# Altium integrated library Linear Technology PMIC-Switching Reg LTC1174-LTC3901.IntLib: 2647 symbols (part 17 of 310)
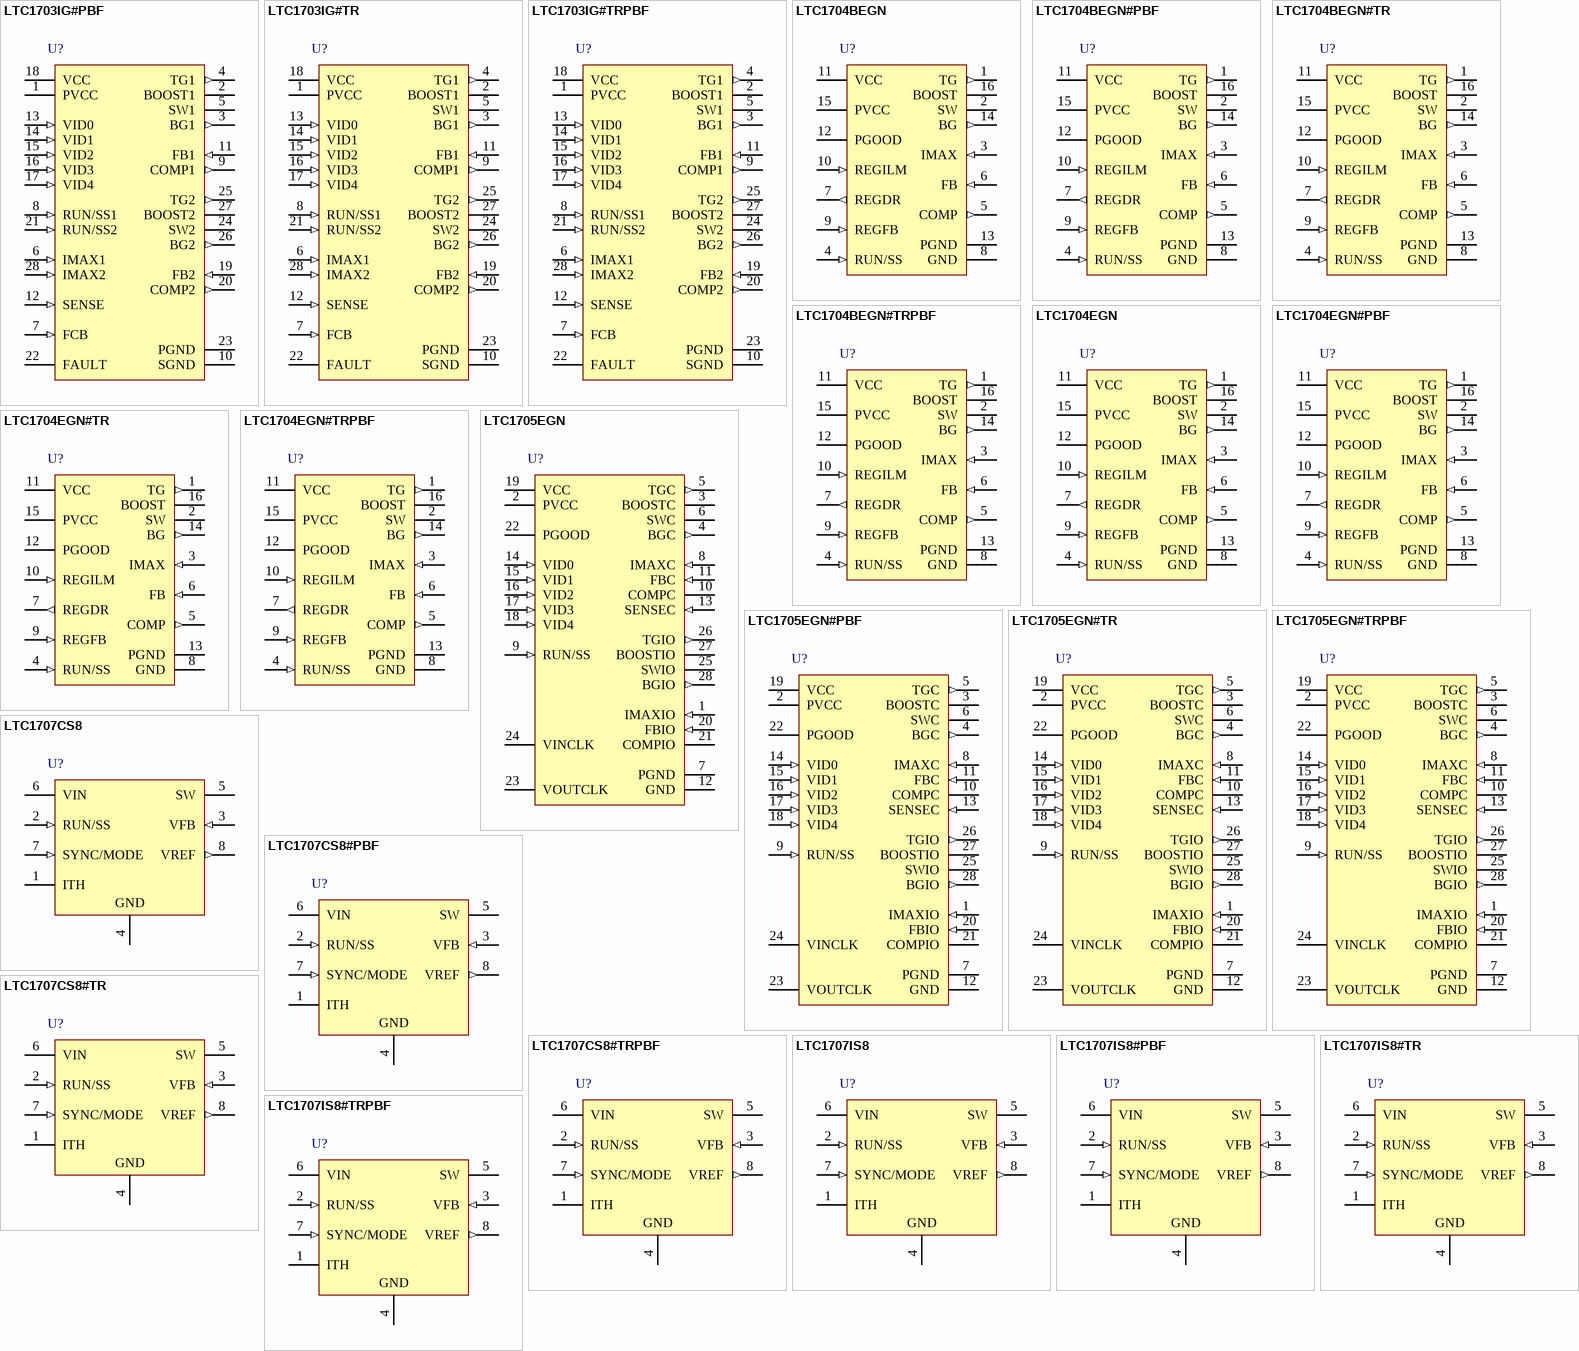
[diagram p125: symbols LTC1703IG#PBF to LTC1707IS8#TRPBF]

## LTC1707IS8#TR
designator U?
High Efficiency Monolithic Synchronous Step-Down Switching Regulator, 8-pin SOIC (S8-8), -40 to 85 degC, Tape and Reel; Manufacturer: Linear Technology; PartNumber: LTC1707IS8#TR; Number of Outputs: 1; PackageReference: S8-8; PackageDescription: 8-Pin Plastic Small Outline (Narrow .150 Inch), Body 4.9 x 3.9 mm, Pitch 1.27 mm; Supplier 1: Digi-Key; Supplier Part Number 1: LTC1707IS8#TR-ND; RoHS: FALSE
footprint LT-S8-8_N (SOIC, 8-Leads, Body 5x4mm, Pitch 1.27mm, IPC Medium Density)
footprint LT-S8-8_L (SOIC, 8-Leads, Body 5x4mm, Pitch 1.27mm, IPC High Density)
footprint LT-S8-8_M (SOIC, 8-Leads, Body 5x4mm, Pitch 1.27mm, IPC Low Density)
pins: 1 ITH "Error Amplifier Compensation Point. The current comparator threshold increases with this control voltage. Nominal voltage range for this pin is 0V to 1.2V.", 2 RUN/SS (in), 3 VFB (in) "Feedback Pin. Receives the feedback voltage from an external resistive divider across the output.", 4 GND (power) "Ground Pin.", 5 SW (power) "Switch Node Connection to Inductor. This pin connects to the drains of the internal main and synchronous power MOSFET switches.", 6 VIN (power) "Main Supply Pin. Must be closely decoupled to GND, Pin 4.", 7 SYNC/MODE (in), 8 VREF (out) "The Output of a 1.19V +/-1% Precision Reference. May be loaded up to 100uA and is stable with up to 2000pF load capacitance."

## LTC1707IS8#TRPBF
designator U?
High Efficiency Monolithic Synchronous Step-Down Switching Regulator, 8-pin SOIC (S8-8), -40 to 85 degC, Pb-Free, Tape and Reel; Manufacturer: Linear Technology; PartNumber: LTC1707IS8#TRPBF; Number of Outputs: 1; PackageReference: S8-8; PackageDescription: 8-Pin Plastic Small Outline (Narrow .150 Inch), Body 4.9 x 3.9 mm, Pitch 1.27 mm; Supplier 1: Digi-Key; Supplier Part Number 1: LTC1707IS8#TRPBF-ND; RoHS: TRUE
footprint LT-S8-8_N (SOIC, 8-Leads, Body 5x4mm, Pitch 1.27mm, IPC Medium Density)
footprint LT-S8-8_L (SOIC, 8-Leads, Body 5x4mm, Pitch 1.27mm, IPC High Density)
footprint LT-S8-8_M (SOIC, 8-Leads, Body 5x4mm, Pitch 1.27mm, IPC Low Density)
pins: 1 ITH "Error Amplifier Compensation Point. The current comparator threshold increases with this control voltage. Nominal voltage range for this pin is 0V to 1.2V.", 2 RUN/SS (in), 3 VFB (in) "Feedback Pin. Receives the feedback voltage from an external resistive divider across the output.", 4 GND (power) "Ground Pin.", 5 SW (power) "Switch Node Connection to Inductor. This pin connects to the drains of the internal main and synchronous power MOSFET switches.", 6 VIN (power) "Main Supply Pin. Must be closely decoupled to GND, Pin 4.", 7 SYNC/MODE (in), 8 VREF (out) "The Output of a 1.19V +/-1% Precision Reference. May be loaded up to 100uA and is stable with up to 2000pF load capacitance."

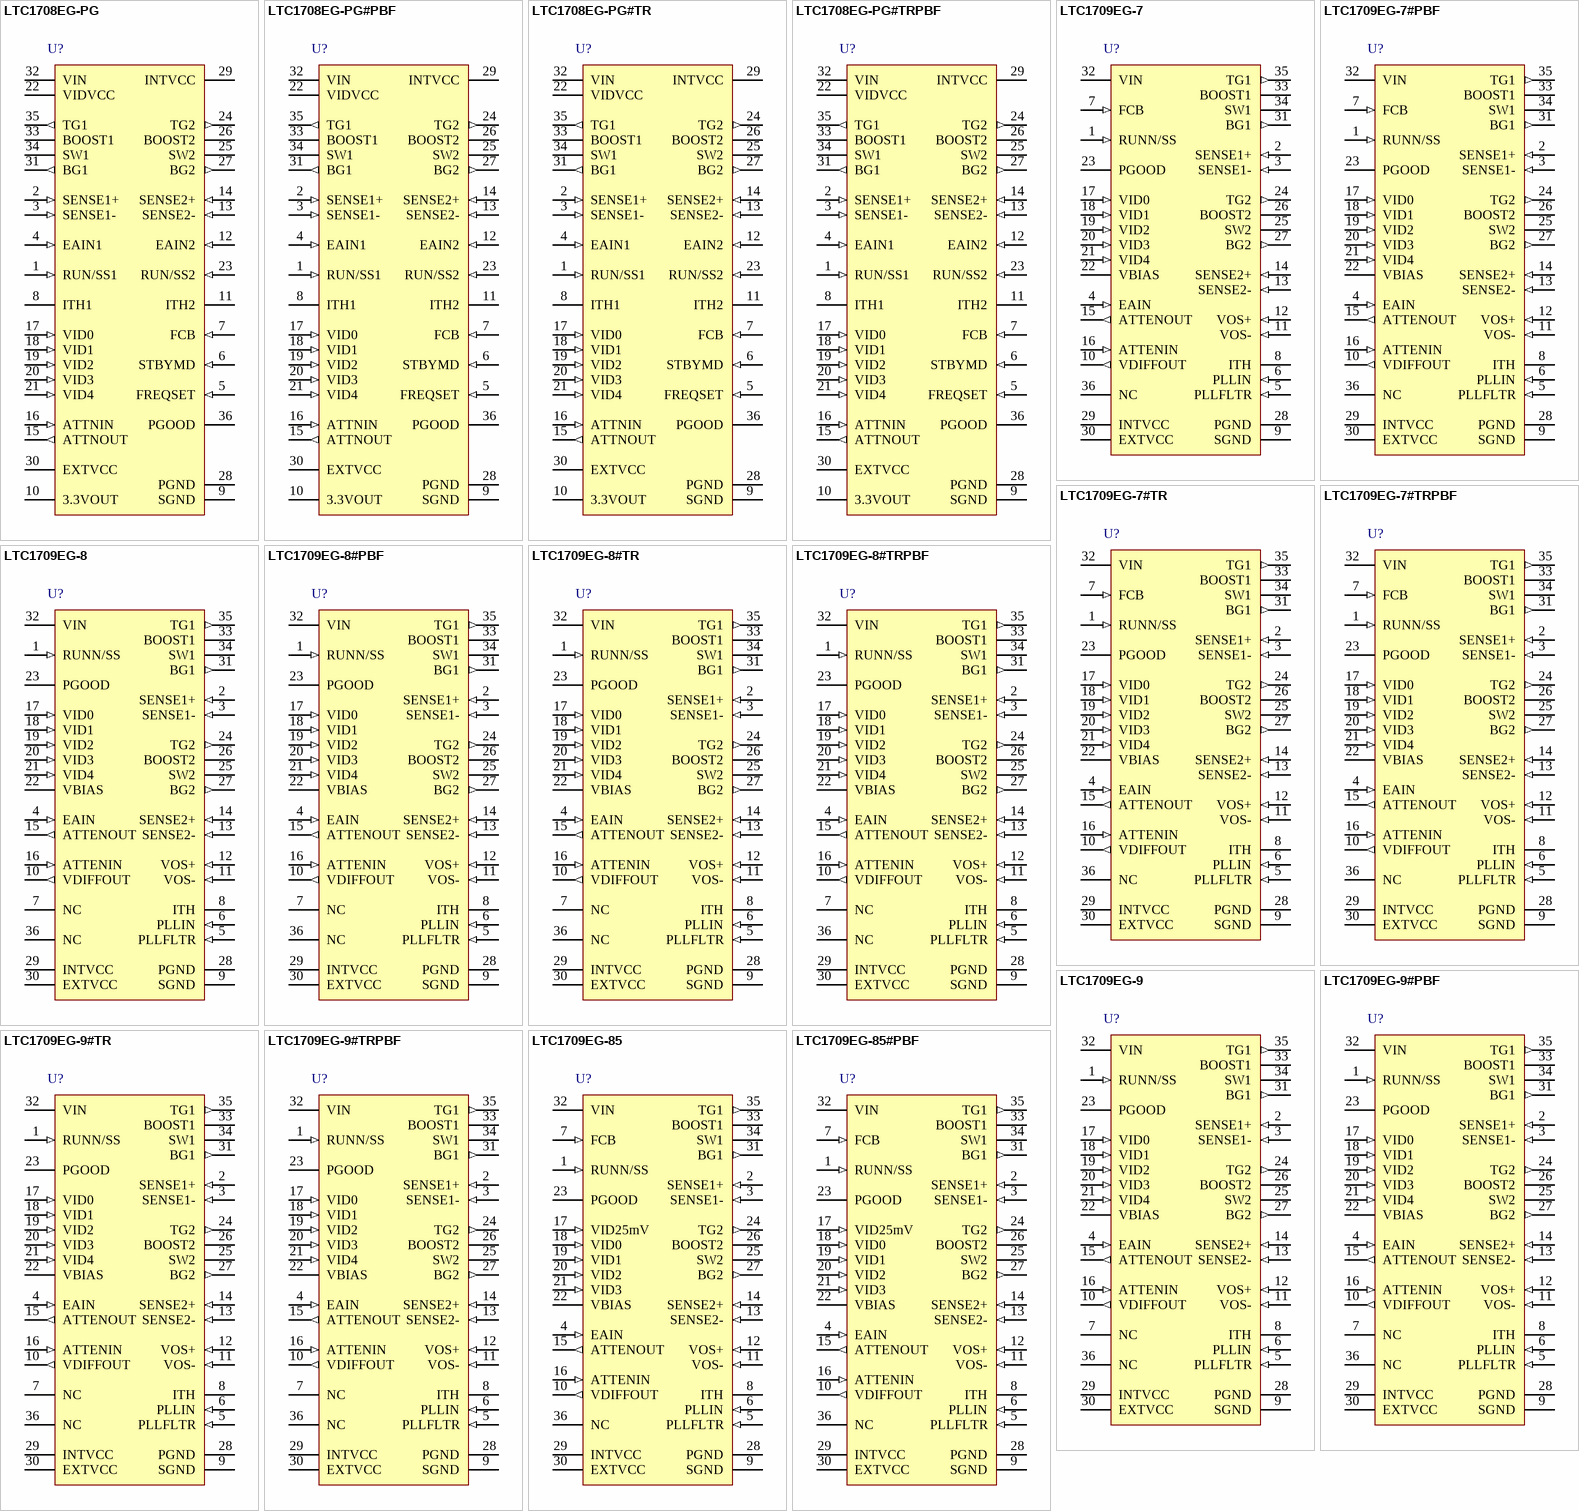
[diagram p6: symbols LTC1708EG-PG to LTC1709EG-85#PBF]

## LTC1708EG-PG
designator U?
Dual Adjustable 5-Bit VID High Efficiency, 2-Phase Current Mode Synchronous Buck DC/DC Regulator, 36-pin SOP (G-36), -40 to 85 degC; Manufacturer: Linear Technology; PartNumber: LTC1708EG-PG; Number of Outputs: 2; PackageReference: G-36; PackageDescription: 36-Pin Plastic SSOP, Body 12.8 x 5.3 mm, Pitch 0.65 mm; Supplier 1: Digi-Key; Supplier Part Number 1: LTC1708EG-PG-ND; RoHS: FALSE
footprint LT-G-36_N (SOP, 36-Leads, Body 13.1x5.6mm, Pitch 0.65mm, IPC Medium Density)
footprint LT-G-36_L (SOP, 36-Leads, Body 13.1x5.6mm, Pitch 0.65mm, IPC High Density)
footprint LT-G-36_M (SOP, 36-Leads, Body 13.1x5.6mm, Pitch 0.65mm, IPC Low Density)
pins: 1 RUN/SS1 (in) "Combination of softstart, run control inputs and short-circuit detection timers. A capacitor to ground at each of these pins sets the ramp time to full output current. Forcing either of these pins back below 1.0V causes the (See Datasheet)", 2 SENSE1+ (in) "The (+) Input to the Differential Current Comparators. The Ith pin voltage and built-in offsets between the SENSE- and SENSE+ pins in conjunction with RSENSE sets the current trip threshold.", 3 SENSE1- (in) "The (-) Input to the Differential Current Comparators", 4 EAIN1 (in) "Receives the remotely sensed feedback voltage for each controller from a resistive divider across the output. The VID section may be used for one resistive divider.", 5 FREQSET (in) "Frequency Control Input to the Oscillator. This pin can be left open, tied to ground, tied to INTVCC or driven by an external voltage source. This pin can also be used with an external phase detector to build a true (See Datasheet)", 6 STBYMD (in) "Control pin that determines which circuitry remains active when the controllers are shut down and/or provides a common control point to shut down both controllers. See the Operation section for details.", 7 FCB (in) "Forced Continuous Control Input. This input acts on both controllers and is normally used to regulate a secondary winding using a resistive divider. An applied input voltage below 0.8V will force continuous synchronous (See Datasheet)", 8 ITH1 "Error Amplifier Output and Switching Regulator Compensation Point. Each associated channels?current comparator trip point increases with this control voltage.", 9 SGND (power) "Small-Signal Ground. Common to both controllers, this pin must be routed separately from high current grounds to the common (-) terminals of the COUT capacitors.", 10 3.3VOUT (power) "Output of a linear regulator capable of supplying 10mA DC with peak currents as high as 50mA.", 11 ITH2 "Error Amplifier Output and Switching Regulator Compensation Point. Each associated channels?current comparator trip point increases with this control voltage.", 12 EAIN2 (in) "Receives the remotely sensed feedback voltage for each controller from a resistive divider across the output. The VID section may be used for one resistive divider.", 13 SENSE2- (in) "The (-) Input to the Differential Current Comparators", 14 SENSE2+ (in) "The (+) Input to the Differential Current Comparators. The Ith pin voltage and built-in offsets between the SENSE- and SENSE+ pins in conjunction with RSENSE sets the current trip threshold.", 15 ATTNOUT (out) "Divided down output voltage feeding the EAIN pin of the regulator. The VID inputs program a resistive divider between ATTNIN and SGND. ATTNOUT is the tap point on the divider. The voltage on ATTNOUT is 0.8V when the output (See Datasheet)", 16 ATTNIN (in) "Receives the remotely sensed feedback voltage from the output.", 17 VID0 (in) "Digital inputs for controlling the output voltage from 0.925V to 2.0V. Table 1 specifies the output voltage for the 32 combinations of digital inputs. The LSB (VID0) represents 50mV increments in the upper voltage range (2.(See Datasheet)", 18 VID1 (in) "Digital inputs for controlling the output voltage from 0.925V to 2.0V. Table 1 specifies the output voltage for the 32 combinations of digital inputs. The LSB (VID0) represents 50mV increments in the upper voltage range (2.(See Datasheet)", 19 VID2 (in) "Digital inputs for controlling the output voltage from 0.925V to 2.0V. Table 1 specifies the output voltage for the 32 combinations of digital inputs. The LSB (VID0) represents 50mV increments in the upper voltage range (2.(See Datasheet)", 20 VID3 (in) "Digital inputs for controlling the output voltage from 0.925V to 2.0V. Table 1 specifies the output voltage for the 32 combinations of digital inputs. The LSB (VID0) represents 50mV increments in the upper voltage range (2.(See Datasheet)", 21 VID4 (in) "Digital inputs for controlling the output voltage from 0.925V to 2.0V. Table 1 specifies the output voltage for the 32 combinations of digital inputs. The LSB (VID0) represents 50mV increments in the upper voltage range (2.(See Datasheet)", 22 VIDVCC (power) "VID Input Supply Voltage. Range from 2.7V to 5.5V. Typically this pin is tied to INTVCC.", 23 RUN/SS2 (in) "Combination of softstart, run control inputs and short-circuit detection timers. A capacitor to ground at each of these pins sets the ramp time to full output current. Forcing either of these pins back below 1.0V causes the (See Datasheet)", 24 TG2 (out) "High Current Gate Drives for Top N-Channel MOSFETs. These are the outputs of floating drivers with a voltage swing equal to INTVCC - 0.5V superimposed on the switch node voltage SW.", 25 SW2 "Switch Node Connections to Inductors. Voltage swing at these pins is from a Schottky diode (external) voltage drop below ground to VIN.", 26 BOOST2 "Bootstrapped Supplies to the Topside Floating Drivers. Capacitors are connected between the boost and switch pins and Schottky diodes are tied between the boost and INTVCC pins. Voltage swing at the boost pins is from INTVCC (See Datasheet)", 27 BG2 (out) "High Current Gate Drives for Bottom (Synchronous) N-Channel MOSFETs. Voltage swing at these pins is from ground to INTVCC.", 28 PGND (power) "Driver Power Ground. Connects to the sources of bottom (synchronous) N-channel MOSFETs, anode of the Schottky rectifier and the (-) terminal(s) of CIN.", 29 INTVCC (power) "Output of the Internal 5V Linear Low Dropout Regulator and the EXTVCC Switch. The driver and control circuits are powered from this voltage source. Must be decoupled to power ground with a minimum of 4.7mF tantalum or other (See Datasheet)", 30 EXTVCC (power) "External Power Input to an Internal Switch Connected to INTVCC. This switch closes and supplies VCC power, bypassing the internal low dropout regulator, whenever EXTVCC is higher than 4.7V. See EXTVCC connection in (See Datasheet)", 31 BG1 (out) "High Current Gate Drives for Bottom (Synchronous) N-Channel MOSFETs. Voltage swing at these pins is from ground to INTVCC.", 32 VIN (power) "Main Supply Pin. A bypass capacitor should be tied between this pin and the signal ground pin.", 33 BOOST1 "Bootstrapped Supplies to the Topside Floating Drivers. Capacitors are connected between the boost and switch pins and Schottky diodes are tied between the boost and INTVCC pins. Voltage swing at the boost pins is from INTVCC (See Datasheet)", 34 SW1 "Switch Node Connections to Inductors. Voltage swing at these pins is from a Schottky diode (external) voltage drop below ground to VIN.", 35 TG1 (out) "High Current Gate Drives for Top N-Channel MOSFETs. These are the outputs of floating drivers with a voltage swing equal to INTVCC - 0.5V superimposed on the switch node voltage SW.", 36 PGOOD (oc) "Open-Drain Logic Output. PGOOD is pulled to ground when the voltage at either EAIN pin is not within 7.5% of the setpoint.VV"

## LTC1708EG-PG#PBF
designator U?
Dual Adjustable 5-Bit VID High Efficiency, 2-Phase Current Mode Synchronous Buck DC/DC Regulator, 36-pin SOP (G-36), -40 to 85 degC, Pb-Free; Manufacturer: Linear Technology; PartNumber: LTC1708EG-PG#PBF; Number of Outputs: 2; PackageReference: G-36; PackageDescription: 36-Pin Plastic SSOP, Body 12.8 x 5.3 mm, Pitch 0.65 mm; Supplier 1: Digi-Key; Supplier Part Number 1: LTC1708EG-PG#PBF-ND; RoHS: TRUE
footprint LT-G-36_N (SOP, 36-Leads, Body 13.1x5.6mm, Pitch 0.65mm, IPC Medium Density)
footprint LT-G-36_L (SOP, 36-Leads, Body 13.1x5.6mm, Pitch 0.65mm, IPC High Density)
footprint LT-G-36_M (SOP, 36-Leads, Body 13.1x5.6mm, Pitch 0.65mm, IPC Low Density)
pins: 1 RUN/SS1 (in) "Combination of softstart, run control inputs and short-circuit detection timers. A capacitor to ground at each of these pins sets the ramp time to full output current. Forcing either of these pins back below 1.0V causes the (See Datasheet)", 2 SENSE1+ (in) "The (+) Input to the Differential Current Comparators. The Ith pin voltage and built-in offsets between the SENSE- and SENSE+ pins in conjunction with RSENSE sets the current trip threshold.", 3 SENSE1- (in) "The (-) Input to the Differential Current Comparators", 4 EAIN1 (in) "Receives the remotely sensed feedback voltage for each controller from a resistive divider across the output. The VID section may be used for one resistive divider.", 5 FREQSET (in) "Frequency Control Input to the Oscillator. This pin can be left open, tied to ground, tied to INTVCC or driven by an external voltage source. This pin can also be used with an external phase detector to build a true (See Datasheet)", 6 STBYMD (in) "Control pin that determines which circuitry remains active when the controllers are shut down and/or provides a common control point to shut down both controllers. See the Operation section for details.", 7 FCB (in) "Forced Continuous Control Input. This input acts on both controllers and is normally used to regulate a secondary winding using a resistive divider. An applied input voltage below 0.8V will force continuous synchronous (See Datasheet)", 8 ITH1 "Error Amplifier Output and Switching Regulator Compensation Point. Each associated channels?current comparator trip point increases with this control voltage.", 9 SGND (power) "Small-Signal Ground. Common to both controllers, this pin must be routed separately from high current grounds to the common (-) terminals of the COUT capacitors.", 10 3.3VOUT (power) "Output of a linear regulator capable of supplying 10mA DC with peak currents as high as 50mA.", 11 ITH2 "Error Amplifier Output and Switching Regulator Compensation Point. Each associated channels?current comparator trip point increases with this control voltage.", 12 EAIN2 (in) "Receives the remotely sensed feedback voltage for each controller from a resistive divider across the output. The VID section may be used for one resistive divider.", 13 SENSE2- (in) "The (-) Input to the Differential Current Comparators", 14 SENSE2+ (in) "The (+) Input to the Differential Current Comparators. The Ith pin voltage and built-in offsets between the SENSE- and SENSE+ pins in conjunction with RSENSE sets the current trip threshold.", 15 ATTNOUT (out) "Divided down output voltage feeding the EAIN pin of the regulator. The VID inputs program a resistive divider between ATTNIN and SGND. ATTNOUT is the tap point on the divider. The voltage on ATTNOUT is 0.8V when the output (See Datasheet)", 16 ATTNIN (in) "Receives the remotely sensed feedback voltage from the output.", 17 VID0 (in) "Digital inputs for controlling the output voltage from 0.925V to 2.0V. Table 1 specifies the output voltage for the 32 combinations of digital inputs. The LSB (VID0) represents 50mV increments in the upper voltage range (2.(See Datasheet)", 18 VID1 (in) "Digital inputs for controlling the output voltage from 0.925V to 2.0V. Table 1 specifies the output voltage for the 32 combinations of digital inputs. The LSB (VID0) represents 50mV increments in the upper voltage range (2.(See Datasheet)", 19 VID2 (in) "Digital inputs for controlling the output voltage from 0.925V to 2.0V. Table 1 specifies the output voltage for the 32 combinations of digital inputs. The LSB (VID0) represents 50mV increments in the upper voltage range (2.(See Datasheet)", 20 VID3 (in) "Digital inputs for controlling the output voltage from 0.925V to 2.0V. Table 1 specifies the output voltage for the 32 combinations of digital inputs. The LSB (VID0) represents 50mV increments in the upper voltage range (2.(See Datasheet)", 21 VID4 (in) "Digital inputs for controlling the output voltage from 0.925V to 2.0V. Table 1 specifies the output voltage for the 32 combinations of digital inputs. The LSB (VID0) represents 50mV increments in the upper voltage range (2.(See Datasheet)", 22 VIDVCC (power) "VID Input Supply Voltage. Range from 2.7V to 5.5V. Typically this pin is tied to INTVCC.", 23 RUN/SS2 (in) "Combination of softstart, run control inputs and short-circuit detection timers. A capacitor to ground at each of these pins sets the ramp time to full output current. Forcing either of these pins back below 1.0V causes the (See Datasheet)", 24 TG2 (out) "High Current Gate Drives for Top N-Channel MOSFETs. These are the outputs of floating drivers with a voltage swing equal to INTVCC - 0.5V superimposed on the switch node voltage SW.", 25 SW2 "Switch Node Connections to Inductors. Voltage swing at these pins is from a Schottky diode (external) voltage drop below ground to VIN.", 26 BOOST2 "Bootstrapped Supplies to the Topside Floating Drivers. Capacitors are connected between the boost and switch pins and Schottky diodes are tied between the boost and INTVCC pins. Voltage swing at the boost pins is from INTVCC (See Datasheet)", 27 BG2 (out) "High Current Gate Drives for Bottom (Synchronous) N-Channel MOSFETs. Voltage swing at these pins is from ground to INTVCC.", 28 PGND (power) "Driver Power Ground. Connects to the sources of bottom (synchronous) N-channel MOSFETs, anode of the Schottky rectifier and the (-) terminal(s) of CIN.", 29 INTVCC (power) "Output of the Internal 5V Linear Low Dropout Regulator and the EXTVCC Switch. The driver and control circuits are powered from this voltage source. Must be decoupled to power ground with a minimum of 4.7mF tantalum or other (See Datasheet)", 30 EXTVCC (power) "External Power Input to an Internal Switch Connected to INTVCC. This switch closes and supplies VCC power, bypassing the internal low dropout regulator, whenever EXTVCC is higher than 4.7V. See EXTVCC connection in (See Datasheet)", 31 BG1 (out) "High Current Gate Drives for Bottom (Synchronous) N-Channel MOSFETs. Voltage swing at these pins is from ground to INTVCC.", 32 VIN (power) "Main Supply Pin. A bypass capacitor should be tied between this pin and the signal ground pin.", 33 BOOST1 "Bootstrapped Supplies to the Topside Floating Drivers. Capacitors are connected between the boost and switch pins and Schottky diodes are tied between the boost and INTVCC pins. Voltage swing at the boost pins is from INTVCC (See Datasheet)", 34 SW1 "Switch Node Connections to Inductors. Voltage swing at these pins is from a Schottky diode (external) voltage drop below ground to VIN.", 35 TG1 (out) "High Current Gate Drives for Top N-Channel MOSFETs. These are the outputs of floating drivers with a voltage swing equal to INTVCC - 0.5V superimposed on the switch node voltage SW.", 36 PGOOD (oc) "Open-Drain Logic Output. PGOOD is pulled to ground when the voltage at either EAIN pin is not within 7.5% of the setpoint.VV"

## LTC1708EG-PG#TR
designator U?
Dual Adjustable 5-Bit VID High Efficiency, 2-Phase Current Mode Synchronous Buck DC/DC Regulator, 36-pin SOP (G-36), -40 to 85 degC, Tape and Reel; Manufacturer: Linear Technology; PartNumber: LTC1708EG-PG#TR; Number of Outputs: 2; PackageReference: G-36; PackageDescription: 36-Pin Plastic SSOP, Body 12.8 x 5.3 mm, Pitch 0.65 mm; Supplier 1: Digi-Key; Supplier Part Number 1: LTC1708EG-PG#TR-ND; RoHS: FALSE
footprint LT-G-36_N (SOP, 36-Leads, Body 13.1x5.6mm, Pitch 0.65mm, IPC Medium Density)
footprint LT-G-36_L (SOP, 36-Leads, Body 13.1x5.6mm, Pitch 0.65mm, IPC High Density)
footprint LT-G-36_M (SOP, 36-Leads, Body 13.1x5.6mm, Pitch 0.65mm, IPC Low Density)
pins: 1 RUN/SS1 (in) "Combination of softstart, run control inputs and short-circuit detection timers. A capacitor to ground at each of these pins sets the ramp time to full output current. Forcing either of these pins back below 1.0V causes the (See Datasheet)", 2 SENSE1+ (in) "The (+) Input to the Differential Current Comparators. The Ith pin voltage and built-in offsets between the SENSE- and SENSE+ pins in conjunction with RSENSE sets the current trip threshold.", 3 SENSE1- (in) "The (-) Input to the Differential Current Comparators", 4 EAIN1 (in) "Receives the remotely sensed feedback voltage for each controller from a resistive divider across the output. The VID section may be used for one resistive divider.", 5 FREQSET (in) "Frequency Control Input to the Oscillator. This pin can be left open, tied to ground, tied to INTVCC or driven by an external voltage source. This pin can also be used with an external phase detector to build a true (See Datasheet)", 6 STBYMD (in) "Control pin that determines which circuitry remains active when the controllers are shut down and/or provides a common control point to shut down both controllers. See the Operation section for details.", 7 FCB (in) "Forced Continuous Control Input. This input acts on both controllers and is normally used to regulate a secondary winding using a resistive divider. An applied input voltage below 0.8V will force continuous synchronous (See Datasheet)", 8 ITH1 "Error Amplifier Output and Switching Regulator Compensation Point. Each associated channels?current comparator trip point increases with this control voltage.", 9 SGND (power) "Small-Signal Ground. Common to both controllers, this pin must be routed separately from high current grounds to the common (-) terminals of the COUT capacitors.", 10 3.3VOUT (power) "Output of a linear regulator capable of supplying 10mA DC with peak currents as high as 50mA.", 11 ITH2 "Error Amplifier Output and Switching Regulator Compensation Point. Each associated channels?current comparator trip point increases with this control voltage.", 12 EAIN2 (in) "Receives the remotely sensed feedback voltage for each controller from a resistive divider across the output. The VID section may be used for one resistive divider.", 13 SENSE2- (in) "The (-) Input to the Differential Current Comparators", 14 SENSE2+ (in) "The (+) Input to the Differential Current Comparators. The Ith pin voltage and built-in offsets between the SENSE- and SENSE+ pins in conjunction with RSENSE sets the current trip threshold.", 15 ATTNOUT (out) "Divided down output voltage feeding the EAIN pin of the regulator. The VID inputs program a resistive divider between ATTNIN and SGND. ATTNOUT is the tap point on the divider. The voltage on ATTNOUT is 0.8V when the output (See Datasheet)", 16 ATTNIN (in) "Receives the remotely sensed feedback voltage from the output.", 17 VID0 (in) "Digital inputs for controlling the output voltage from 0.925V to 2.0V. Table 1 specifies the output voltage for the 32 combinations of digital inputs. The LSB (VID0) represents 50mV increments in the upper voltage range (2.(See Datasheet)", 18 VID1 (in) "Digital inputs for controlling the output voltage from 0.925V to 2.0V. Table 1 specifies the output voltage for the 32 combinations of digital inputs. The LSB (VID0) represents 50mV increments in the upper voltage range (2.(See Datasheet)", 19 VID2 (in) "Digital inputs for controlling the output voltage from 0.925V to 2.0V. Table 1 specifies the output voltage for the 32 combinations of digital inputs. The LSB (VID0) represents 50mV increments in the upper voltage range (2.(See Datasheet)", 20 VID3 (in) "Digital inputs for controlling the output voltage from 0.925V to 2.0V. Table 1 specifies the output voltage for the 32 combinations of digital inputs. The LSB (VID0) represents 50mV increments in the upper voltage range (2.(See Datasheet)", 21 VID4 (in) "Digital inputs for controlling the output voltage from 0.925V to 2.0V. Table 1 specifies the output voltage for the 32 combinations of digital inputs. The LSB (VID0) represents 50mV increments in the upper voltage range (2.(See Datasheet)", 22 VIDVCC (power) "VID Input Supply Voltage. Range from 2.7V to 5.5V. Typically this pin is tied to INTVCC.", 23 RUN/SS2 (in) "Combination of softstart, run control inputs and short-circuit detection timers. A capacitor to ground at each of these pins sets the ramp time to full output current. Forcing either of these pins back below 1.0V causes the (See Datasheet)", 24 TG2 (out) "High Current Gate Drives for Top N-Channel MOSFETs. These are the outputs of floating drivers with a voltage swing equal to INTVCC - 0.5V superimposed on the switch node voltage SW.", 25 SW2 "Switch Node Connections to Inductors. Voltage swing at these pins is from a Schottky diode (external) voltage drop below ground to VIN.", 26 BOOST2 "Bootstrapped Supplies to the Topside Floating Drivers. Capacitors are connected between the boost and switch pins and Schottky diodes are tied between the boost and INTVCC pins. Voltage swing at the boost pins is from INTVCC (See Datasheet)", 27 BG2 (out) "High Current Gate Drives for Bottom (Synchronous) N-Channel MOSFETs. Voltage swing at these pins is from ground to INTVCC.", 28 PGND (power) "Driver Power Ground. Connects to the sources of bottom (synchronous) N-channel MOSFETs, anode of the Schottky rectifier and the (-) terminal(s) of CIN.", 29 INTVCC (power) "Output of the Internal 5V Linear Low Dropout Regulator and the EXTVCC Switch. The driver and control circuits are powered from this voltage source. Must be decoupled to power ground with a minimum of 4.7mF tantalum or other (See Datasheet)", 30 EXTVCC (power) "External Power Input to an Internal Switch Connected to INTVCC. This switch closes and supplies VCC power, bypassing the internal low dropout regulator, whenever EXTVCC is higher than 4.7V. See EXTVCC connection in (See Datasheet)", 31 BG1 (out) "High Current Gate Drives for Bottom (Synchronous) N-Channel MOSFETs. Voltage swing at these pins is from ground to INTVCC.", 32 VIN (power) "Main Supply Pin. A bypass capacitor should be tied between this pin and the signal ground pin.", 33 BOOST1 "Bootstrapped Supplies to the Topside Floating Drivers. Capacitors are connected between the boost and switch pins and Schottky diodes are tied between the boost and INTVCC pins. Voltage swing at the boost pins is from INTVCC (See Datasheet)", 34 SW1 "Switch Node Connections to Inductors. Voltage swing at these pins is from a Schottky diode (external) voltage drop below ground to VIN.", 35 TG1 (out) "High Current Gate Drives for Top N-Channel MOSFETs. These are the outputs of floating drivers with a voltage swing equal to INTVCC - 0.5V superimposed on the switch node voltage SW.", 36 PGOOD (oc) "Open-Drain Logic Output. PGOOD is pulled to ground when the voltage at either EAIN pin is not within 7.5% of the setpoint.VV"

## LTC1708EG-PG#TRPBF
designator U?
Dual Adjustable 5-Bit VID High Efficiency, 2-Phase Current Mode Synchronous Buck DC/DC Regulator, 36-pin SOP (G-36), -40 to 85 degC, Pb-Free, Tape and Reel; Manufacturer: Linear Technology; PartNumber: LTC1708EG-PG#TRPBF; Number of Outputs: 2; PackageReference: G-36; PackageDescription: 36-Pin Plastic SSOP, Body 12.8 x 5.3 mm, Pitch 0.65 mm; Supplier 1: Digi-Key; Supplier Part Number 1: LTC1708EG-PG#TRPBF-ND; RoHS: TRUE
footprint LT-G-36_N (SOP, 36-Leads, Body 13.1x5.6mm, Pitch 0.65mm, IPC Medium Density)
footprint LT-G-36_L (SOP, 36-Leads, Body 13.1x5.6mm, Pitch 0.65mm, IPC High Density)
footprint LT-G-36_M (SOP, 36-Leads, Body 13.1x5.6mm, Pitch 0.65mm, IPC Low Density)
pins: 1 RUN/SS1 (in) "Combination of softstart, run control inputs and short-circuit detection timers. A capacitor to ground at each of these pins sets the ramp time to full output current. Forcing either of these pins back below 1.0V causes the (See Datasheet)", 2 SENSE1+ (in) "The (+) Input to the Differential Current Comparators. The Ith pin voltage and built-in offsets between the SENSE- and SENSE+ pins in conjunction with RSENSE sets the current trip threshold.", 3 SENSE1- (in) "The (-) Input to the Differential Current Comparators", 4 EAIN1 (in) "Receives the remotely sensed feedback voltage for each controller from a resistive divider across the output. The VID section may be used for one resistive divider.", 5 FREQSET (in) "Frequency Control Input to the Oscillator. This pin can be left open, tied to ground, tied to INTVCC or driven by an external voltage source. This pin can also be used with an external phase detector to build a true (See Datasheet)", 6 STBYMD (in) "Control pin that determines which circuitry remains active when the controllers are shut down and/or provides a common control point to shut down both controllers. See the Operation section for details.", 7 FCB (in) "Forced Continuous Control Input. This input acts on both controllers and is normally used to regulate a secondary winding using a resistive divider. An applied input voltage below 0.8V will force continuous synchronous (See Datasheet)", 8 ITH1 "Error Amplifier Output and Switching Regulator Compensation Point. Each associated channels?current comparator trip point increases with this control voltage.", 9 SGND (power) "Small-Signal Ground. Common to both controllers, this pin must be routed separately from high current grounds to the common (-) terminals of the COUT capacitors.", 10 3.3VOUT (power) "Output of a linear regulator capable of supplying 10mA DC with peak currents as high as 50mA.", 11 ITH2 "Error Amplifier Output and Switching Regulator Compensation Point. Each associated channels?current comparator trip point increases with this control voltage.", 12 EAIN2 (in) "Receives the remotely sensed feedback voltage for each controller from a resistive divider across the output. The VID section may be used for one resistive divider.", 13 SENSE2- (in) "The (-) Input to the Differential Current Comparators", 14 SENSE2+ (in) "The (+) Input to the Differential Current Comparators. The Ith pin voltage and built-in offsets between the SENSE- and SENSE+ pins in conjunction with RSENSE sets the current trip threshold.", 15 ATTNOUT (out) "Divided down output voltage feeding the EAIN pin of the regulator. The VID inputs program a resistive divider between ATTNIN and SGND. ATTNOUT is the tap point on the divider. The voltage on ATTNOUT is 0.8V when the output (See Datasheet)", 16 ATTNIN (in) "Receives the remotely sensed feedback voltage from the output.", 17 VID0 (in) "Digital inputs for controlling the output voltage from 0.925V to 2.0V. Table 1 specifies the output voltage for the 32 combinations of digital inputs. The LSB (VID0) represents 50mV increments in the upper voltage range (2.(See Datasheet)", 18 VID1 (in) "Digital inputs for controlling the output voltage from 0.925V to 2.0V. Table 1 specifies the output voltage for the 32 combinations of digital inputs. The LSB (VID0) represents 50mV increments in the upper voltage range (2.(See Datasheet)", 19 VID2 (in) "Digital inputs for controlling the output voltage from 0.925V to 2.0V. Table 1 specifies the output voltage for the 32 combinations of digital inputs. The LSB (VID0) represents 50mV increments in the upper voltage range (2.(See Datasheet)", 20 VID3 (in) "Digital inputs for controlling the output voltage from 0.925V to 2.0V. Table 1 specifies the output voltage for the 32 combinations of digital inputs. The LSB (VID0) represents 50mV increments in the upper voltage range (2.(See Datasheet)", 21 VID4 (in) "Digital inputs for controlling the output voltage from 0.925V to 2.0V. Table 1 specifies the output voltage for the 32 combinations of digital inputs. The LSB (VID0) represents 50mV increments in the upper voltage range (2.(See Datasheet)", 22 VIDVCC (power) "VID Input Supply Voltage. Range from 2.7V to 5.5V. Typically this pin is tied to INTVCC.", 23 RUN/SS2 (in) "Combination of softstart, run control inputs and short-circuit detection timers. A capacitor to ground at each of these pins sets the ramp time to full output current. Forcing either of these pins back below 1.0V causes the (See Datasheet)", 24 TG2 (out) "High Current Gate Drives for Top N-Channel MOSFETs. These are the outputs of floating drivers with a voltage swing equal to INTVCC - 0.5V superimposed on the switch node voltage SW.", 25 SW2 "Switch Node Connections to Inductors. Voltage swing at these pins is from a Schottky diode (external) voltage drop below ground to VIN.", 26 BOOST2 "Bootstrapped Supplies to the Topside Floating Drivers. Capacitors are connected between the boost and switch pins and Schottky diodes are tied between the boost and INTVCC pins. Voltage swing at the boost pins is from INTVCC (See Datasheet)", 27 BG2 (out) "High Current Gate Drives for Bottom (Synchronous) N-Channel MOSFETs. Voltage swing at these pins is from ground to INTVCC.", 28 PGND (power) "Driver Power Ground. Connects to the sources of bottom (synchronous) N-channel MOSFETs, anode of the Schottky rectifier and the (-) terminal(s) of CIN.", 29 INTVCC (power) "Output of the Internal 5V Linear Low Dropout Regulator and the EXTVCC Switch. The driver and control circuits are powered from this voltage source. Must be decoupled to power ground with a minimum of 4.7mF tantalum or other (See Datasheet)", 30 EXTVCC (power) "External Power Input to an Internal Switch Connected to INTVCC. This switch closes and supplies VCC power, bypassing the internal low dropout regulator, whenever EXTVCC is higher than 4.7V. See EXTVCC connection in (See Datasheet)", 31 BG1 (out) "High Current Gate Drives for Bottom (Synchronous) N-Channel MOSFETs. Voltage swing at these pins is from ground to INTVCC.", 32 VIN (power) "Main Supply Pin. A bypass capacitor should be tied between this pin and the signal ground pin.", 33 BOOST1 "Bootstrapped Supplies to the Topside Floating Drivers. Capacitors are connected between the boost and switch pins and Schottky diodes are tied between the boost and INTVCC pins. Voltage swing at the boost pins is from INTVCC (See Datasheet)", 34 SW1 "Switch Node Connections to Inductors. Voltage swing at these pins is from a Schottky diode (external) voltage drop below ground to VIN.", 35 TG1 (out) "High Current Gate Drives for Top N-Channel MOSFETs. These are the outputs of floating drivers with a voltage swing equal to INTVCC - 0.5V superimposed on the switch node voltage SW.", 36 PGOOD (oc) "Open-Drain Logic Output. PGOOD is pulled to ground when the voltage at either EAIN pin is not within 7.5% of the setpoint.VV"

## LTC1709EG-7
designator U?
2-Phase, 5-Bit VID, Current Mode, High Efficiency, Synchronous Step-Down Switching Regulator, 36-pin SOP (G-36), -40 to 85 degC; Manufacturer: Linear Technology; PartNumber: LTC1709EG-7; Number of Outputs: 1; PackageReference: G-36; PackageDescription: 36-Pin Plastic SSOP, Body 12.8 x 5.3 mm, Pitch 0.65 mm; RoHS: FALSE
footprint LT-G-36_N (SOP, 36-Leads, Body 13.1x5.6mm, Pitch 0.65mm, IPC Medium Density)
footprint LT-G-36_L (SOP, 36-Leads, Body 13.1x5.6mm, Pitch 0.65mm, IPC High Density)
footprint LT-G-36_M (SOP, 36-Leads, Body 13.1x5.6mm, Pitch 0.65mm, IPC Low Density)
pins: 1 RUNN/SS (in) "Combination of Soft-Start, Run Control Input and Short-Circuit Detection Timer. A capacitor to ground at this pin sets the ramp time to full current output. Forcing this pin below 0.8V causes the IC to shut down all internal (See Datasheet)", 2 SENSE1+ (in) "The (+) Input to Each Differential Current Comparator. The ITH pin voltage and built-in offsets between SENSE- and SENSE+ pins in conjunction with RSENSE set the current trip threshold.", 3 SENSE1- (in) "The (-) Input to the Differential Current Comparators.", 4 EAIN (in) "Input to the error amplifier that compares the feedback voltage to the internal 0.8V reference voltage. This pin is normally connected to a resistive divider from the output of the differential amplifier (DIFFOUT).", 5 PLLFLTR (in) "The phase-locked loop¡¯s lowpass filter is tied to this pin. Alternatively, this pin can be driven with an AC or DC voltage source to vary the frequency of the internal oscillator", 6 PLLIN (in) "External Synchronization Input to Phase Detector. This pin is internally terminated to SGND with 50kohm. The phase-locked loop will force the rising top gate signal of controller 1 to be synchronized with the rising edge of (See Datasheet)", 7 FCB (in) "Forced Continuous Control Input. This input acts on both output stages and can be used to regulate a secondary winding. Pulling this pin below 0.8V will force continuous synchronous operation. Do not leave this pin floating (See Datasheet)", 8 ITH "Error Amplifier Output and Switching Regulator Compensation Point. Both current comparator¡¯s thresholds increase with this control voltage. The normal voltage range of this pin is from 0V to 2.4V", 9 SGND (power) "Signal Ground. This pin is common to both controllers. Route separately to the PGND pin.", 10 VDIFFOUT (out) "Output of a Differential Amplifier. This pin provides true remote output voltage sensing. VDIFFOUT normally drives an external resistive divider that sets the output voltage.", 11 VOS- (in) "Inputs to an Operational Amplifier. Internal precision resistors configure it as a differential amplifier whose output is VDIFFOUT.", 12 VOS+ (in) "Inputs to an Operational Amplifier. Internal precision resistors configure it as a differential amplifier whose output is VDIFFOUT.", 13 SENSE2- (in) "The (-) Input to the Differential Current Comparators.", 14 SENSE2+ (in) "The (+) Input to Each Differential Current Comparator. The ITH pin voltage and built-in offsets between SENSE- and SENSE+ pins in conjunction with RSENSE set the current trip threshold.", 15 ATTENOUT (out) "Voltage Feedback Signal Resistively Divided According to the VID Programming Code", 16 ATTENIN (in) "The Input to the VID Controlled Resistive Divider", 17 VID0 (in) "VID Control Logic Input Pins.", 18 VID1 (in) "VID Control Logic Input Pins.", 19 VID2 (in) "VID Control Logic Input Pins.", 20 VID3 (in) "VID Control Logic Input Pins.", 21 VID4 (in) "VID Control Logic Input Pins.", 22 VBIAS (power) "Supply Pin for the VID Control Circuit.", 23 PGOOD (oc) "Open-Drain Logic Output. PGOOD is pulled to ground when the voltage on the EAIN pin is not within +/-7.5% of its set point.", 24 TG2 (out) "High Current Gate Drives for Top N-Channel MOSFETS. These are the outputs of floating drivers with a voltage swing equal to INTVCC superimposed on the switch node voltage SW.", 25 SW2 "Switch Node Connections to Inductors. Voltage swing at these pins is from a Schottky diode (external) voltage drop below ground to VIN.", 26 BOOST2 "Bootstrapped Supplies to the Topside Floating Drivers. External capacitors are connected between the BOOST and SW pins, and Schottky diodes are connected between the BOOST and INTVCC pins.", 27 BG2 (out) "High Current Gate Drives for Bottom N-Channel MOSFETS. Voltage swing at these pins is from ground to INTVCC.", 28 PGND (power) "Driver Power Ground. Connect to sources of bottom N-channel MOSFETS and the (-) terminals of CIN.", 29 INTVCC (power) "Output of the Internal 5V Linear Low Dropout Regulator and the EXTVCC Switch. The driver and control circuits are powered from this voltage source. Decouple to power ground with a 1uF ceramic capacitor placed directly (See Datasheet)", 30 EXTVCC (power) "External Power Input to an Internal Switch. This switch closes and supplies INTVCC, bypassing the internal low dropout regulator whenever EXTVCC is higher than 4.7V. See EXTVCC Connection in the Applications Information (See Datasheet)", 31 BG1 (out) "High Current Gate Drives for Bottom N-Channel MOSFETS. Voltage swing at these pins is from ground to INTVCC.", 32 VIN (power) "Main Supply Pin. Should be closely decoupled to the IC¡¯s signal ground pin.", 33 BOOST1 "Bootstrapped Supplies to the Topside Floating Drivers. External capacitors are connected between the BOOST and SW pins, and Schottky diodes are connected between the BOOST and INTVCC pins.", 34 SW1 "Switch Node Connections to Inductors. Voltage swing at these pins is from a Schottky diode (external) voltage drop below ground to VIN.", 35 TG1 (out) "High Current Gate Drives for Top N-Channel MOSFETS. These are the outputs of floating drivers with a voltage swing equal to INTVCC superimposed on the switch node voltage SW.", 36 NC "Do not connect."

## LTC1709EG-7#PBF
designator U?
2-Phase, 5-Bit VID, Current Mode, High Efficiency, Synchronous Step-Down Switching Regulator, 36-pin SOP (G-36), -40 to 85 degC, Pb-Free; Manufacturer: Linear Technology; PartNumber: LTC1709EG-7#PBF; Number of Outputs: 1; PackageReference: G-36; PackageDescription: 36-Pin Plastic SSOP, Body 12.8 x 5.3 mm, Pitch 0.65 mm; Supplier 1: Digi-Key; Supplier Part Number 1: LTC1709EG-7#PBF-ND; RoHS: TRUE
footprint LT-G-36_N (SOP, 36-Leads, Body 13.1x5.6mm, Pitch 0.65mm, IPC Medium Density)
footprint LT-G-36_L (SOP, 36-Leads, Body 13.1x5.6mm, Pitch 0.65mm, IPC High Density)
footprint LT-G-36_M (SOP, 36-Leads, Body 13.1x5.6mm, Pitch 0.65mm, IPC Low Density)
pins: 1 RUNN/SS (in) "Combination of Soft-Start, Run Control Input and Short-Circuit Detection Timer. A capacitor to ground at this pin sets the ramp time to full current output. Forcing this pin below 0.8V causes the IC to shut down all internal (See Datasheet)", 2 SENSE1+ (in) "The (+) Input to Each Differential Current Comparator. The ITH pin voltage and built-in offsets between SENSE- and SENSE+ pins in conjunction with RSENSE set the current trip threshold.", 3 SENSE1- (in) "The (-) Input to the Differential Current Comparators.", 4 EAIN (in) "Input to the error amplifier that compares the feedback voltage to the internal 0.8V reference voltage. This pin is normally connected to a resistive divider from the output of the differential amplifier (DIFFOUT).", 5 PLLFLTR (in) "The phase-locked loop¡¯s lowpass filter is tied to this pin. Alternatively, this pin can be driven with an AC or DC voltage source to vary the frequency of the internal oscillator", 6 PLLIN (in) "External Synchronization Input to Phase Detector. This pin is internally terminated to SGND with 50kohm. The phase-locked loop will force the rising top gate signal of controller 1 to be synchronized with the rising edge of (See Datasheet)", 7 FCB (in) "Forced Continuous Control Input. This input acts on both output stages and can be used to regulate a secondary winding. Pulling this pin below 0.8V will force continuous synchronous operation. Do not leave this pin floating (See Datasheet)", 8 ITH "Error Amplifier Output and Switching Regulator Compensation Point. Both current comparator¡¯s thresholds increase with this control voltage. The normal voltage range of this pin is from 0V to 2.4V", 9 SGND (power) "Signal Ground. This pin is common to both controllers. Route separately to the PGND pin.", 10 VDIFFOUT (out) "Output of a Differential Amplifier. This pin provides true remote output voltage sensing. VDIFFOUT normally drives an external resistive divider that sets the output voltage.", 11 VOS- (in) "Inputs to an Operational Amplifier. Internal precision resistors configure it as a differential amplifier whose output is VDIFFOUT.", 12 VOS+ (in) "Inputs to an Operational Amplifier. Internal precision resistors configure it as a differential amplifier whose output is VDIFFOUT.", 13 SENSE2- (in) "The (-) Input to the Differential Current Comparators.", 14 SENSE2+ (in) "The (+) Input to Each Differential Current Comparator. The ITH pin voltage and built-in offsets between SENSE- and SENSE+ pins in conjunction with RSENSE set the current trip threshold.", 15 ATTENOUT (out) "Voltage Feedback Signal Resistively Divided According to the VID Programming Code", 16 ATTENIN (in) "The Input to the VID Controlled Resistive Divider", 17 VID0 (in) "VID Control Logic Input Pins.", 18 VID1 (in) "VID Control Logic Input Pins.", 19 VID2 (in) "VID Control Logic Input Pins.", 20 VID3 (in) "VID Control Logic Input Pins.", 21 VID4 (in) "VID Control Logic Input Pins.", 22 VBIAS (power) "Supply Pin for the VID Control Circuit.", 23 PGOOD (oc) "Open-Drain Logic Output. PGOOD is pulled to ground when the voltage on the EAIN pin is not within +/-7.5% of its set point.", 24 TG2 (out) "High Current Gate Drives for Top N-Channel MOSFETS. These are the outputs of floating drivers with a voltage swing equal to INTVCC superimposed on the switch node voltage SW.", 25 SW2 "Switch Node Connections to Inductors. Voltage swing at these pins is from a Schottky diode (external) voltage drop below ground to VIN.", 26 BOOST2 "Bootstrapped Supplies to the Topside Floating Drivers. External capacitors are connected between the BOOST and SW pins, and Schottky diodes are connected between the BOOST and INTVCC pins.", 27 BG2 (out) "High Current Gate Drives for Bottom N-Channel MOSFETS. Voltage swing at these pins is from ground to INTVCC.", 28 PGND (power) "Driver Power Ground. Connect to sources of bottom N-channel MOSFETS and the (-) terminals of CIN.", 29 INTVCC (power) "Output of the Internal 5V Linear Low Dropout Regulator and the EXTVCC Switch. The driver and control circuits are powered from this voltage source. Decouple to power ground with a 1uF ceramic capacitor placed directly (See Datasheet)", 30 EXTVCC (power) "External Power Input to an Internal Switch. This switch closes and supplies INTVCC, bypassing the internal low dropout regulator whenever EXTVCC is higher than 4.7V. See EXTVCC Connection in the Applications Information (See Datasheet)", 31 BG1 (out) "High Current Gate Drives for Bottom N-Channel MOSFETS. Voltage swing at these pins is from ground to INTVCC.", 32 VIN (power) "Main Supply Pin. Should be closely decoupled to the IC¡¯s signal ground pin.", 33 BOOST1 "Bootstrapped Supplies to the Topside Floating Drivers. External capacitors are connected between the BOOST and SW pins, and Schottky diodes are connected between the BOOST and INTVCC pins.", 34 SW1 "Switch Node Connections to Inductors. Voltage swing at these pins is from a Schottky diode (external) voltage drop below ground to VIN.", 35 TG1 (out) "High Current Gate Drives for Top N-Channel MOSFETS. These are the outputs of floating drivers with a voltage swing equal to INTVCC superimposed on the switch node voltage SW.", 36 NC "Do not connect."